# EAGLE library part LM2663 (library QuantumOptics)
LM2663, switched cap DC-DC converter. Inverter, doubler, supply splitter.
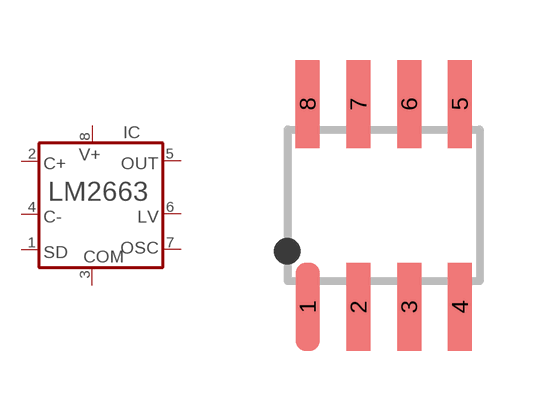
[diagram p11: symbol with the pads of SOIC-8; footprint SOIC-8]

Designator prefix IC

## LM2663M  [SOIC-8]
1  SD  in
2  C+  in
3  COM
4  C-  in
5  OUT
6  LV
7  OSC  nc
8  V+

## Footprint SOIC-8 (pad centres in mm)
SOIC-8 (a.k.a. SO-8), pads on 0.050" x 0.200" c-c spacing.
smd 0.6 x 2.2: 1 -1.27,-2.54; 2 0,-2.54; 3 1.27,-2.54; 4 2.54,-2.54; 5 2.54,2.54; 6 1.27,2.54; 7 0,2.54; 8 -1.27,2.54